# Altium schematic symbol library relay.SchLib: 1 symbol
Pins are listed as number, name and electrical type; pins without a type are passive.

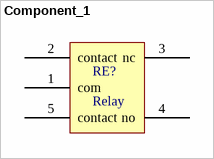
[diagram p0: symbol Component_1]

## Component_1
designator RE?, comment Relay
footprint relay
pins: 1 com, 2 contact, 3 nc, 4 no, 5 contact